# Altium footprint library TLI-1550A-2ZT.PcbLib: 1 footprints
Each footprint in its own frame and in the unit in brackets; x right, y up, seen from the top. Pads: shape width x height; smd on the part's side, far side on the other; paste and mask are expansions set on the pad; w line width, h text height; cw(c..) or ccw(c..) is an arc to the next point about the centre after c.
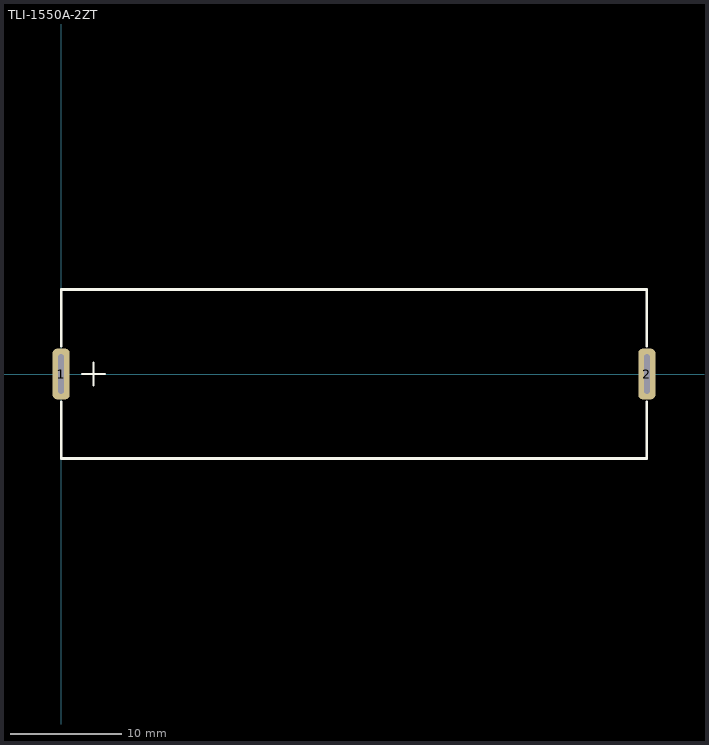
[diagram p0: the footprint, top view; thin cyan lines are the x and y axes]

## TLI-1550A-2ZT [mil]
pads (2):
  rrect50% 60x180 hole 20 slot 140 at 90 deg: 1(0,0) 2(2080,0)
Top Overlay:
  lines w8: 75,0 155,0 ; 115,-40 115,40
  lines w10: 0,-100 0,-300 2080,-300 2080,-100 ; 0,100 0,300 2080,300 2080,100
3D body: height 597.24, standoff -312.24, extent -3.31,-297.12 2083.3,297.14